# Altium schematic symbol library VIPER.SchLib: 1 symbol
Pins are listed as number, name and electrical type; pins without a type are passive.

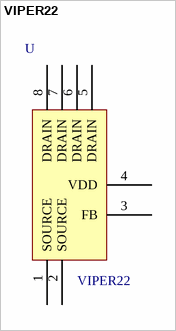
[diagram p0: symbol VIPER22]

## VIPER22
designator U  value VIPER22  (hidden comment: *)
Manufacturer Code: VIPER22ADIP-E; Manufacturer: ST MICROELECTRONICS; Farnell Code: 1077240; Unit Price: 1,79 €; MOQ: 1
footprint DIP8
pins: 1 SOURCE, 2 SOURCE, 3 FB, 4 VDD, 5 DRAIN, 6 DRAIN, 7 DRAIN, 8 DRAIN